# Altium footprint library JST_B7B-XH-A(LF)(SN).PcbLib: 1 footprints
Each footprint in its own frame and in the unit in brackets; x right, y up, seen from the top. Pads: shape width x height; smd on the part's side, far side on the other; paste and mask are expansions set on the pad; w line width, h text height; cw(c..) or ccw(c..) is an arc to the next point about the centre after c.
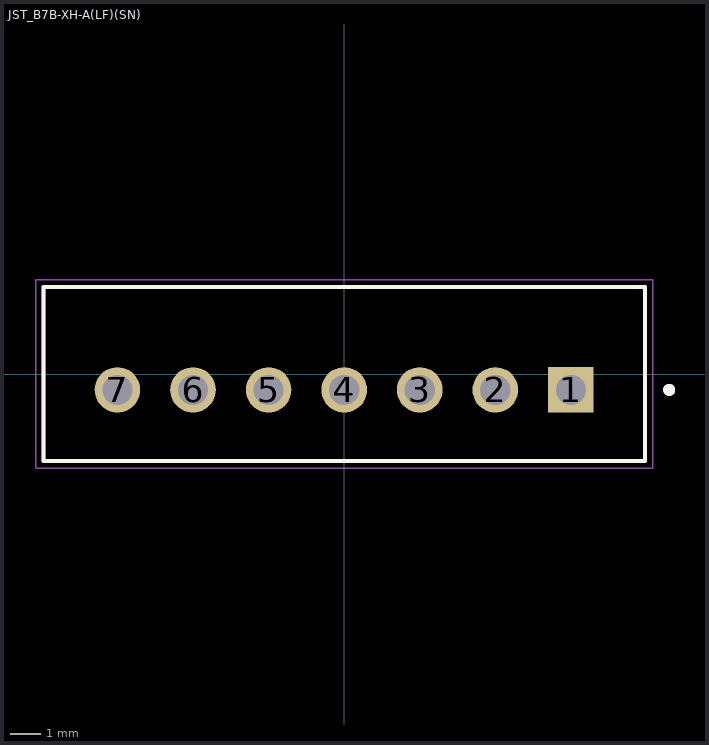
[diagram p0: the footprint, top view; thin cyan lines are the x and y axes]

## JST_B7B-XH-A(LF)(SN) [mm]
height 7
pads (7):
  rect 1.508x1.508 / inner round 1.508 / far side rect 1.508x1.508 hole 1: 1(7.5,-0.525)
  round 1.508 hole 1: 2(5,-0.525) 3(2.5,-0.525) 4(0,-0.525) 5(-2.5,-0.525) 6(-5,-0.525) 7(-7.5,-0.525)
Top Overlay:
  circle w0.2: c10.75,-0.525 r0.1
  lines w0.127: -9.95,-2.875 9.95,-2.875 9.95,2.875 -9.95,2.875 -9.95,-2.875
Mechanical 13:
  circle w0.2: c10.75,-0.525 r0.1
  lines w0.127: -9.95,-2.875 9.95,-2.875 9.95,2.875 -9.95,2.875 -9.95,-2.875
Mechanical 15:
  lines w0.05: -10.2,-3.125 10.2,-3.125 10.2,3.125 -10.2,3.125 -10.2,-3.125
3D body "step_temp.STEP": height 7, standoff -3.4, extent -9.95,-2.875 9.95,2.875